# EAGLE library part NRF8001 (library lightmeter)
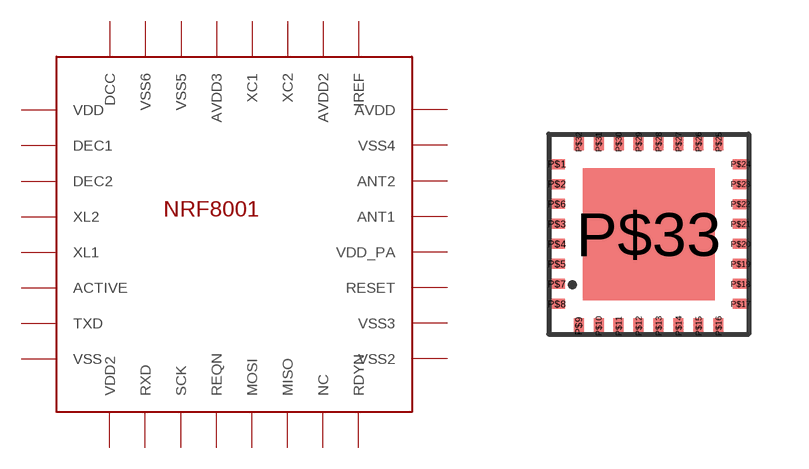
[diagram p4: symbol with the pads of NRF8001; footprint NRF8001]

Designator prefix -

## NRF8001  [NRF8001]
P$1  VDD
P$2  DEC1
P$3  DEC2
P$4  XL2
P$5  XL1
P$6  ACTIVE
P$7  TXD
P$8  VSS
P$9  VDD2
P$10  RXD
P$11  SCK
P$12  REQN
P$13  MOSI
P$14  MISO
P$15  NC
P$16  RDYN
P$17  VSS2
P$18  VSS3
P$19  RESET
P$20  VDD_PA
P$21  ANT1
P$22  ANT2
P$23  VSS4
P$24  AVDD
P$25  IREF
P$26  AVDD2
P$27  XC2
P$28  XC1
P$29  AVDD3
P$30  VSS5
P$31  VSS6
P$32  DCC
P$33  VSS

## Footprint NRF8001 (pad centres in mm)
smd 0.4 x 0.25: P$1 -2.3,1.75; P$2 -2.3,1.25; P$3 -2.3,0.25; P$4 -2.3,-0.25; P$5 -2.3,-0.75; P$6 -2.3,0.75; P$7 -2.3,-1.25; P$8 -2.3,-1.75; P$17 2.3,-1.75; P$18 2.3,-1.25; P$19 2.3,-0.75; P$20 2.3,-0.25; P$21 2.3,0.25; P$22 2.3,0.75; P$23 2.3,1.25; P$24 2.3,1.75
smd 0.25 x 0.4: P$9 -1.75,-2.3; P$10 -1.25,-2.3; P$11 -0.75,-2.3; P$12 -0.25,-2.3; P$13 0.25,-2.3; P$14 0.75,-2.3; P$15 1.25,-2.3; P$16 1.75,-2.3; P$25 1.75,2.3; P$26 1.25,2.3; P$27 0.75,2.3; P$28 0.25,2.3; P$29 -0.25,2.3; P$30 -0.75,2.3; P$31 -1.25,2.3; P$32 -1.75,2.3
smd 3.3 x 3.3: P$33 0,0